# Altium integrated library Components - 12.06.24 - 00.46.IntLib: 1 symbol
Pins are listed as number, name and electrical type; pins without a type are passive.

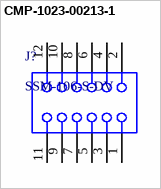
[diagram p0: symbol CMP-1023-00213-1]

## CMP-1023-00213-1
designator J?, comment SSM-106-S-DV
Tiger Claw(TM) Surface Mount Socket, Vertical, -55 to 125 degC, 2.54 mm Pitch, 12-Pin, Female, RoHS; Manufacturer: Samtec; Pitch: 2.54 mm; ComponentLink1URL: http://www.samtec.com; Mounting Technology: Surface Mount; ComponentLink3Description: Package Specification; RoHS: True; Orientation: Vertical; DatasheetVersion: F-214; Temperature Range: -55 to 125 degC; PackageVersion: AK, 3/2000; PackageDescription: .100 C.L. Double Vertical SMT Socket Strip; PackageReference: SSM-106-X-DV; ComponentLink2Description: Datasheet; ComponentLink3URL: http://www.samtec.com/documents/webfiles/cpdf/SSM-1XX-XXX-DV-XX-XX-X-XX-MKT.pdf; ComponentLink2URL: http://www.samtec.com/documents/webfiles/pdf/SSM_SM.PDF; ComponentLink1Description: Manufacturer URL; PartNumber: SSM-106-S-DV
footprint SMTC-SSM-106-X-DV (C.L. Double Vertical SMT Socket Strip, 2x6 Pins, 2.54mm Pitch, Female)
pins: 1, 2, 3, 4, 5, 6, 7, 8, 9, 10, 11, 12